# Altium schematic symbol library SRcap.SchLib: 1 symbol
Pins are listed as number, name and electrical type; pins without a type are passive.

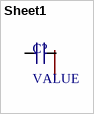
[diagram p0: symbol Sheet1]

## Sheet1
designator C?, comment VALUE
footprint SPcap
pins: 1, 2